# Altium footprint library 贴片.PcbLib: 31 footprints (part 1 of 2)
Each footprint in its own frame and in the unit in brackets; x right, y up, seen from the top. Pads: shape width x height; smd on the part's side, far side on the other; paste and mask are expansions set on the pad; w line width, h text height; cw(c..) or ccw(c..) is an arc to the next point about the centre after c.
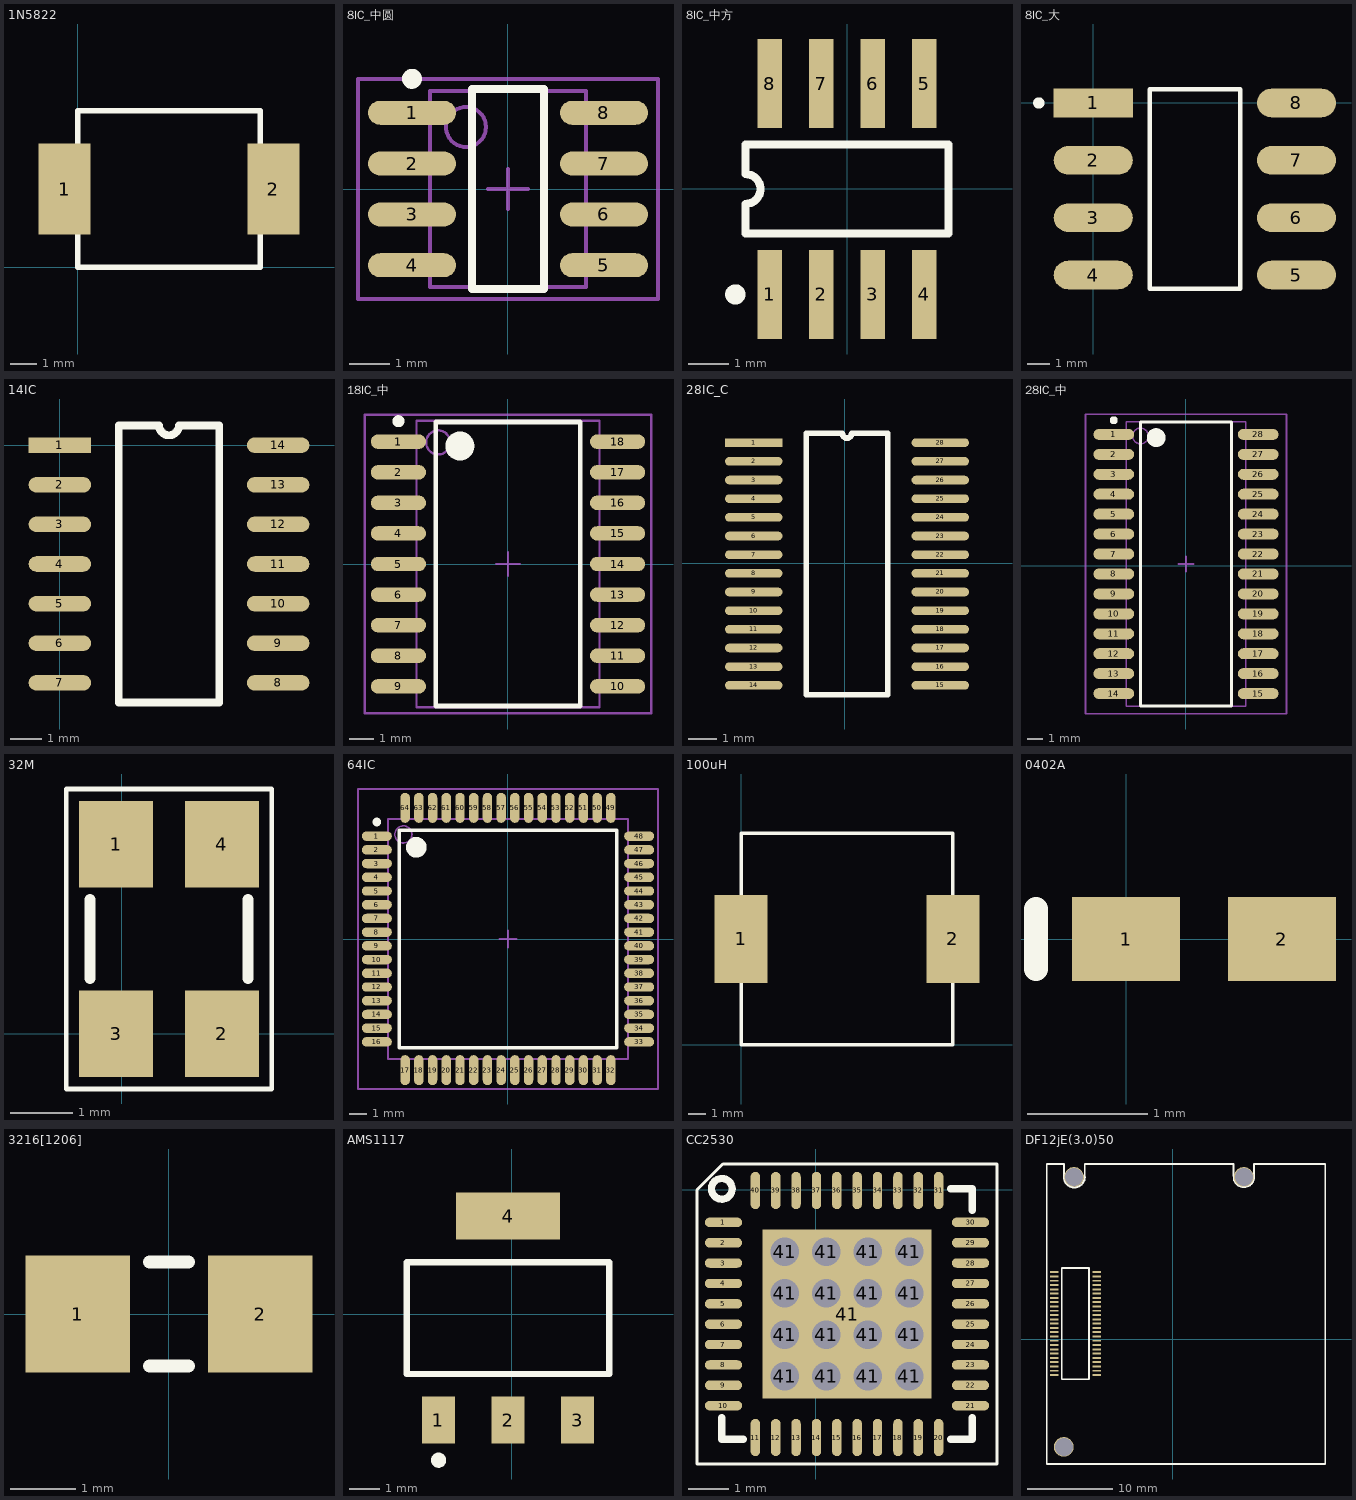
[diagram p0: the footprints below, top view; thin cyan lines are the x and y axes]

## 1N5822 [mm] "SS34"
pads (2):
  rect 2x3.5 smd: 1(-0.5,3) 2(7.5,3)
Top Overlay:
  lines w0.2: 0,0 7,0 7,6 0,6 0,0

## 8IC_中圆 [mm]
height 1.75
pads (8):
  oval 2.2x0.6 smd: 1(-2.4,1.905) 2(-2.4,0.635) 3(-2.4,-0.635) 4(-2.4,-1.905) 5(2.4,-1.905) 6(2.4,-0.635) 7(2.4,0.635) 8(2.4,1.905)
Top Overlay:
  circle w0.25: c-2.4,2.755 r0.125
  lines w0.2: -0.9,-2.5 -0.9,2.5 0.9,2.5 0.9,-2.5 -0.9,-2.5
Mechanical 13:
  circle w0.1: c-1.05,1.55 r0.5
  lines w0.1: -1.95,-2.45 -1.95,2.45 1.95,2.45 1.95,-2.45 -1.95,-2.45
Mechanical 15:
  lines w0.1: -0.5,0 0.5,0 ; 0,-0.5 0,0.5 ; -3.75,-2.75 -3.75,2.75 3.75,2.75 3.75,-2.75 -3.75,-2.75

## 8IC_中方 [mm]
height 1.75
pads (8):
  rect 0.6x2.2 smd: 1(-1.905,-2.6) 2(-0.635,-2.6) 3(0.635,-2.6) 4(1.905,-2.6) 5(1.905,2.6) 6(0.635,2.6) 7(-0.635,2.6) 8(-1.905,2.6)
Top Overlay:
  circle w0.25: c-2.755,-2.6 r0.125
  lines w0.2: -2.5,-1.1 2.5,-1.1 2.5,1.1 -2.5,1.1 -2.5,0.367 cw(c-2.5,0) -2.5,-0.367 -2.5,-1.1

## 8IC_大 [mm]
height 3.81
pads (8):
  rect 3.5x1.27 smd: 1(0,0)
  oval 3.5x1.27 smd: 2(0,-2.54) 3(0,-5.08) 4(0,-7.62) 5(9,-7.62) 6(9,-5.08) 7(9,-2.54) 8(9,0)
Top Overlay:
  circle w0.25: c-2.411,0 r0.125
  lines w0.2: 2.5,-8.22 2.5,0.6 6.5,0.6 6.5,-8.22 2.5,-8.22

## 14IC [mm]
pads (14):
  rect 2x0.5 smd: 1(0,0)
  oval 2x0.5 smd: 2(0,-1.27) 3(0,-2.54) 4(0,-3.81) 5(0,-5.08) 6(0,-6.35) 7(0,-7.62) 8(7,-7.62) 9(7,-6.35) 10(7,-5.08) 11(7,-3.81) 12(7,-2.54) 13(7,-1.27) 14(7,0)
Top Overlay:
  lines w0.254: 1.889,-8.255 1.889,0.635 3.183,0.635 ccw(c3.5,0.635) 3.818,0.635 5.111,0.635 5.111,-8.255 1.889,-8.255

## 18IC_中 [mm]
pads (18):
  oval 2.3x0.6 smd: 1(-4.55,5.08) 2(-4.55,3.81) 3(-4.55,2.54) 4(-4.55,1.27) 5(-4.55,0) 6(-4.55,-1.27) 7(-4.55,-2.54) 8(-4.55,-3.81) 9(-4.55,-5.08) 10(4.55,-5.08) 11(4.55,-3.81) 12(4.55,-2.54) 13(4.55,-1.27) 14(4.55,0) 15(4.55,1.27) 16(4.55,2.54) 17(4.55,3.81) 18(4.55,5.08)
Top Overlay:
  circle w0.6: c-2,4.9 r0.3
  circle w0.25: c-4.55,5.93 r0.125
  lines w0.2: -3,-5.9 3,-5.9 3,5.9 -3,5.9 -3,-5.9
Mechanical 13:
  circle w0.1: c-2.9,5.05 r0.5
  lines w0.1: -3.8,-5.95 3.8,-5.95 3.8,5.95 -3.8,5.95 -3.8,-5.95
Mechanical 15:
  lines w0.1: -0.5,0 0.5,0 ; 0,-0.5 0,0.5 ; -5.95,-6.2 5.95,-6.2 5.95,6.2 -5.95,6.2 -5.95,-6.2
3D body: height 2.65, standoff 0, extent -3.8,-5.95 3.8,5.95

## 28IC_С [mm]
pads (28):
  rect 2x0.3 smd: 1(-3.175,4.191)
  oval 2x0.3 smd: 2(-3.175,3.541) 3(-3.175,2.891) 4(-3.175,2.241) 5(-3.175,1.591) 6(-3.175,0.941) 7(-3.175,0.291) 8(-3.175,-0.359) 9(-3.175,-1.009) 10(-3.175,-1.659) 11(-3.175,-2.309) 12(-3.175,-2.959) 13(-3.175,-3.609) 14(-3.175,-4.259) 15(3.325,-4.259) 16(3.325,-3.609) 17(3.325,-2.959) 18(3.325,-2.309) 19(3.325,-1.659) 20(3.325,-1.009) 21(3.325,-0.359) 22(3.325,0.291) 23(3.325,0.941) 24(3.325,1.591) 25(3.325,2.241) 26(3.325,2.891) 27(3.325,3.541) 28(3.325,4.191)
Top Overlay:
  lines w0.2: -1.34,-4.584 -1.34,4.516 -0.088,4.516 ccw(c0.075,4.516) 0.237,4.516 1.49,4.516 1.49,-4.584 -1.34,-4.584

## 28IC_中 [mm]
pads (28):
  oval 2.6x0.7 smd: 1(-4.6,8.382) 2(-4.6,7.112) 3(-4.6,5.842) 4(-4.6,4.572) 5(-4.6,3.302) 6(-4.6,2.032) 7(-4.6,0.762) 8(-4.6,-0.508) 9(-4.6,-1.778) 10(-4.6,-3.048) 11(-4.6,-4.318) 12(-4.6,-5.588) 13(-4.6,-6.858) 14(-4.6,-8.128) 15(4.6,-8.128) 16(4.6,-6.858) 17(4.6,-5.588) 18(4.6,-4.318) 19(4.6,-3.048) 20(4.6,-1.778) 21(4.6,-0.508) 22(4.6,0.762) 23(4.6,2.032) 24(4.6,3.302) 25(4.6,4.572) 26(4.6,5.842) 27(4.6,7.112) 28(4.6,8.382)
Top Overlay:
  circle w0.6: c-1.9,8.177 r0.3
  circle w0.25: c-4.6,9.282 r0.125
  lines w0.2: -2.9,-8.923 2.9,-8.923 2.9,9.177 -2.9,9.177 -2.9,-8.923
Mechanical 13:
  circle w0.1: c-2.9,8.282 r0.5
  lines w0.1: -3.8,-8.928 3.8,-8.928 3.8,9.182 -3.8,9.182 -3.8,-8.928
Mechanical 15:
  lines w0.1: -0.5,0.127 0.5,0.127 ; 0,-0.373 0,0.627 ; -6.4,-9.423 6.4,-9.423 6.4,9.677 -6.4,9.677 -6.4,-9.423
3D body: height 2.65, standoff 0, extent -3.8,-8.928 3.8,9.182

## 32M [mil] "32M"
pads (4):
  rect 47x55 smd: 1(-3.5,120) 2(63.5,0) 3(-3.5,0) 4(63.5,120)
Top Overlay:
  lines w3: -35,-35 95,-35 95,155 -35,155 -35,-35
  lines w7: -20,35 -20,85 ; 80,35 80,85

## 64IC [mm]
height 1.2
pads (64):
  oval 1.75x0.55 smd: 1(-7.65,6) 2(-7.65,5.2) 3(-7.65,4.4) 4(-7.65,3.6) 5(-7.65,2.8) 6(-7.65,2) 7(-7.65,1.2) 8(-7.65,0.4) 9(-7.65,-0.4) 10(-7.65,-1.2) 11(-7.65,-2) 12(-7.65,-2.8) 13(-7.65,-3.6) 14(-7.65,-4.4) 15(-7.65,-5.2) 16(-7.65,-6) 33(7.65,-6) 34(7.65,-5.2) 35(7.65,-4.4) 36(7.65,-3.6) 37(7.65,-2.8) 38(7.65,-2) 39(7.65,-1.2) 40(7.65,-0.4) 41(7.65,0.4) 42(7.65,1.2) 43(7.65,2) 44(7.65,2.8) 45(7.65,3.6) 46(7.65,4.4) 47(7.65,5.2) 48(7.65,6)
  oval 0.55x1.75 smd: 17(-6,-7.65) 18(-5.2,-7.65) 19(-4.4,-7.65) 20(-3.6,-7.65) 21(-2.8,-7.65) 22(-2,-7.65) 23(-1.2,-7.65) 24(-0.4,-7.65) 25(0.4,-7.65) 26(1.2,-7.65) 27(2,-7.65) 28(2.8,-7.65) 29(3.6,-7.65) 30(4.4,-7.65) 31(5.2,-7.65) 32(6,-7.65) 49(6,7.65) 50(5.2,7.65) 51(4.4,7.65) 52(3.6,7.65) 53(2.8,7.65) 54(2,7.65) 55(1.2,7.65) 56(0.4,7.65) 57(-0.4,7.65) 58(-1.2,7.65) 59(-2,7.65) 60(-2.8,7.65) 61(-3.6,7.65) 62(-4.4,7.65) 63(-5.2,7.65) 64(-6,7.65)
Top Overlay:
  circle w0.25: c-7.65,6.825 r0.125
  circle w0.6: c-5.35,5.35 r0.3
  lines w0.2: -6.35,-6.35 -6.35,6.35 6.35,6.35 6.35,-6.35 -6.35,-6.35
Mechanical 13:
  circle w0.1: c-6.1,6.1 r0.5
  lines w0.1: -7,-7 -7,7 7,7 7,-7 -7,-7
Mechanical 15:
  lines w0.1: -0.5,0 0.5,0 ; 0,-0.5 0,0.5 ; -8.75,-8.75 -8.75,8.75 8.75,8.75 8.75,-8.75 -8.75,-8.75

## 100uH [mm] "12*12"
pads (2):
  rect 3x5 smd: 1(0,6) 2(12,6)
Top Overlay:
  lines w0.2: 0,0 12,0 12,12 0,12 0,0

## 0402A [mm]
pads (2):
  rect 0.9x0.7 smd: 1(0,0) 2(1.3,0)
Top Overlay:
  lines w0.2: -0.75,-0.25 -0.75,0.25

## 3216[1206] [mm]
height 2.54
pads (2):
  rect 1.6x1.8 smd: 1(-1.4,0) 2(1.4,0)
Top Overlay:
  lines w0.2: -0.3,-0.8 0.3,-0.8 ; -0.3,0.8 0.3,0.8

## AMS1117 [mm] "AMS1117"
pads (4):
  rect 1.1x1.55 smd: 1(-2.427,-3.502) 2(-0.127,-3.502) 3(2.173,-3.502)
  rect 3.45x1.55 smd: 4(-0.127,3.248)
Top Overlay:
  circle w0.25: c-2.427,-4.827 r0.125
  lines w0.2: -3.477,-1.977 3.223,-1.977 3.223,1.723 -3.477,1.723 -3.477,-1.977

## CC2530 [mm]
pads (57):
  oval 0.915x0.23 smd: 1(-2.271,-0.798) 2(-2.271,-1.298) 3(-2.271,-1.798) 4(-2.271,-2.298) 5(-2.271,-2.798) 6(-2.271,-3.298) 7(-2.271,-3.798) 8(-2.271,-4.298) 9(-2.271,-4.798) 10(-2.271,-5.298) 21(3.794,-5.298) 22(3.794,-4.798) 23(3.794,-4.298) 24(3.794,-3.798) 25(3.794,-3.298) 26(3.794,-2.798) 27(3.794,-2.298) 28(3.794,-1.798) 29(3.794,-1.298) 30(3.794,-0.798)
  oval 0.23x0.915 smd: 11(-1.488,-6.081) 12(-0.988,-6.081) 13(-0.488,-6.081) 14(0.012,-6.081) 15(0.512,-6.081) 16(1.012,-6.081) 17(1.512,-6.081) 18(2.012,-6.081) 19(2.512,-6.081) 20(3.012,-6.081) 31(3.012,-0.016) 32(2.512,-0.016) 33(2.012,-0.016) 34(1.512,-0.016) 35(1.012,-0.016) 36(0.512,-0.016) 37(0.012,-0.016) 38(-0.488,-0.016) 39(-0.988,-0.016) 40(-1.488,-0.016)
  round 0.9 hole 0.7: 41(-0.762,-4.572) 41(-0.762,-3.556) 41(-0.762,-2.54) 41(-0.762,-1.524) 41(0.254,-4.572) 41(0.254,-3.556) 41(0.254,-2.54) 41(0.254,-1.524) 41(1.27,-4.572) 41(1.27,-3.556) 41(1.27,-2.54) 41(1.27,-1.524) 41(2.286,-4.572) 41(2.286,-3.556) 41(2.286,-2.54) 41(2.286,-1.524)
  rect 4.15x4.15 smd: 41(0.762,-3.048)
Top Overlay:
  circle w0.178: c-2.311,0.025 r0.254
  lines w0.076: -2.921,-6.731 4.445,-6.731 4.445,0.635 -2.286,0.635 -2.921,0 -2.921,-6.731
  lines w0.178: -2.311,-5.588 -2.311,-6.121 -1.778,-6.121 ; 3.302,-6.121 3.835,-6.121 3.835,-5.588 ; 3.302,0.025 3.835,0.025 3.835,-0.508

## DF12jE(3.0)50 [mil] "MC52i"
pads (53):
  rect 39.37x9 smd: 1(-350.51,308.11) 2(-350.51,288.43) 3(-350.51,268.74) 4(-350.51,249.06) 5(-350,229.37) 6(-350.51,209.69) 7(-350.51,190) 8(-350.51,170.31) 9(-350.51,150.63) 10(-350.51,130.94) 11(-350.51,111.26) 12(-350.51,91.57) 13(-350.51,71.89) 14(-350.51,52.2) 15(-350.51,32.52) 16(-350.51,12.83) 17(-350.51,-6.85) 18(-350.51,-26.54) 19(-350.51,-46.22) 20(-350.51,-65.91) 21(-350.51,-85.59) 22(-350.51,-105.28) 23(-350.51,-124.96) 24(-350.51,-144.65) 25(-350.51,-164.33) 26(-545,-164.33) 27(-545,-144.65) 28(-545,-124.96) 29(-545,-105.28) 30(-545,-85.59) 31(-545,-65.91) 32(-545,-46.22) 33(-545,-26.54) 34(-545,-6.85) 35(-545,12.83) 36(-545,32.52) 37(-545,52.2) 38(-545,71.89) 39(-545,91.57) 40(-545,111.26) 41(-545,130.94) 42(-545,150.63) 43(-545,170.31) 44(-545,190) 45(-545,209.69) 46(-545,229.37) 47(-545,249.06) 48(-545,268.74) 49(-545,288.43) 50(-545,308.11)
  round 90.55 hole 82.68: ""(-501.26,-494.21) ""(-454.02,745.94) ""(325.51,745.94)
Top Overlay:
  lines w7.87: -580,-572.95 -580,805 ; -579.06,-572.95 700.47,-572.95 700.47,805 372.76,805 372.76,745 ; -577.87,805 -500,805 -500,745 ; -405,750 -405,805 278.27,805 278.27,750 ; -510,-184.02 -385,-184.02 -385,327.8 -510,327.8 -510,-184.02
  lines w10: -500,745 ccw(c-452.57,745) -405.13,745 ; 280,745 ccw(c326.1,745) 372.2,745